# Altium footprint library MyLibrary.PcbLib: 365 footprints (part 21 of 23)
Each footprint in its own frame and in the unit in brackets; x right, y up, seen from the top. Pads: shape width x height; smd on the part's side, far side on the other; paste and mask are expansions set on the pad; w line width, h text height; cw(c..) or ccw(c..) is an arc to the next point about the centre after c.
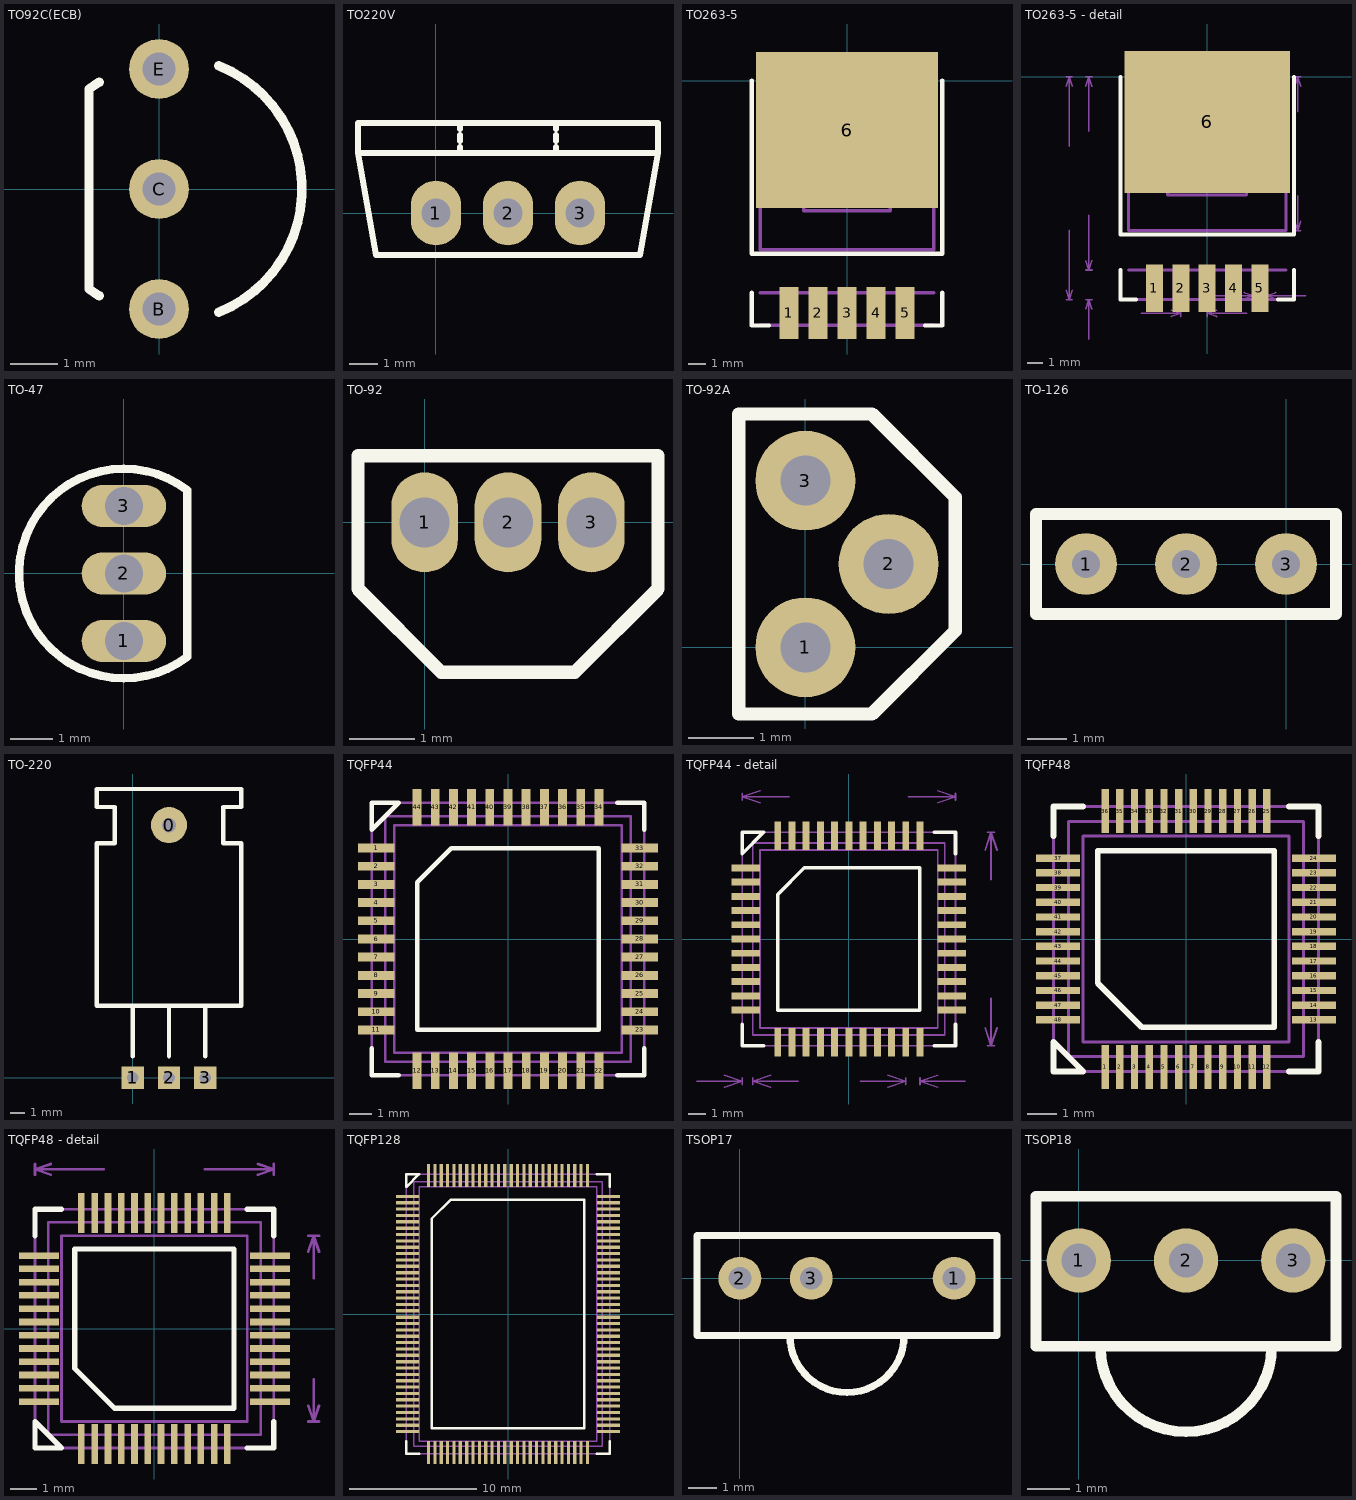
[diagram p20: the footprints below, top view; thin cyan lines are the x and y axes]

## TO92C(ECB) [mm]
pads (3):
  round 1.27 hole 0.7: B(0,-2.54) C(0,0) E(0,2.54)
Top Overlay:
  lines w0.2: -1.263,-2.263 -1.482,-2.117 -1.482,2.117 -1.263,2.263 ; 1.266,-2.61 ccw(c0.212,0) 1.266,2.61

## TO220V [mil]
pads (3):
  oval 70x90 hole 40: 1(0,0) 2(100,0) 3(200,0)
Top Overlay:
  lines w7.87: 33.33,83.33 33.33,91.67 ; 33.33,100 33.33,108.33 ; 33.33,116.67 33.33,125 ; 166.67,83.33 166.67,91.67 ; 166.67,100 166.67,108.33 ; 166.67,116.67 166.67,125 ; -108.33,83.33 308.33,83.33 ; -108.33,83.33 -83.33,-58.33 283.33,-58.33 308.33,83.33 ; -108.33,83.33 -108.33,125 308.33,125 308.33,83.33

## TO263-5 [mil]
pads (6):
  rect 43x120 smd: 1(-133.86,-536.34) 2(-66.93,-536.34) 3(0,-536.34) 4(66.93,-536.34) 5(133.86,-536.34)
  rect 420x360 smd: 6(0,-114.17)
Top Overlay:
  lines w10: -220,-490 -220,-565 -180,-565 ; -220,0 -220,-400 220,-400 220,0 ; 180,-565 220,-565 220,-490
Mechanical 1:
  lines w7.87: -200,-565 200,-565 ; -200,-490 200,-490 ; -200,-50 -100,-50 -100,-300 100,-300 100,-50 200,-50 ; -150.5,-565 -150.5,-490 ; -117.5,-565 -117.5,-490 ; -83.5,-565 -83.5,-490 ; -50.5,-565 -50.5,-490 ; -16.5,-565 -16.5,-490 ; 16.5,-565 16.5,-490 ; 50.5,-565 50.5,-490 ; 83.5,-565 83.5,-490 ; 117.5,-565 117.5,-490 ; 150.5,-565 150.5,-490 ; -200,-390 -200,0 200,0 200,-390 -200,-390

## TO263-5 - detail [mil]
pads (6):
  rect 43x120 smd: 1(-133.86,-536.34) 2(-66.93,-536.34) 3(0,-536.34) 4(66.93,-536.34) 5(133.86,-536.34)
  rect 420x360 smd: 6(0,-114.17)
Top Overlay:
  lines w10: -220,-490 -220,-565 -180,-565 ; -220,0 -220,-400 220,-400 220,0 ; 180,-565 220,-565 220,-490
Mechanical 1:
  lines w3.94: -357.87,-565 -342.13,-565 ; -357.87,-541.38 -350,-565 ; -357.87,-23.62 -350,0 ; -357.87,0 -342.13,0 ; -350,-388.93 -350,-565 ; -350,-176.07 -350,0 ; -342.13,-541.38 -350,-565 ; -342.13,-23.62 -350,0 ; -307.87,-588.62 -300,-565 ; -307.87,-565 -292.13,-565 ; -307.87,-23.62 -300,0 ; -307.87,0 -292.13,0 ; -300,-665 -300,-565 ; -300,-390 -300,-490 ; -300,-351.43 -300,-490 ; -300,-138.57 -300,0 ; -292.13,-588.62 -300,-565 ; -292.13,-23.62 -300,0 ; -200,22.13 -200,37.87 ; -176.38,22.13 -200,30 ; -176.38,37.87 -200,30 ; -167,-600 -67,-600 ; -106.43,30 -200,30 ; -90.62,-607.87 -67,-600 ; -90.62,-592.13 -67,-600 ; -67,-607.87 -67,-592.13 ; 0,-607.87 0,-592.13 ; 17.5,-555 117.5,-555 ; 23.62,-607.87 0,-600 ; 23.62,-592.13 0,-600 ; 93.88,-562.87 117.5,-555 ; 93.88,-547.13 117.5,-555 ; 100,-600 0,-600 ; 106.43,30 200,30 ; 117.5,-562.87 117.5,-547.13 ; 150.5,-562.87 150.5,-547.13 ; 174.12,-562.87 150.5,-555 ; 174.12,-547.13 150.5,-555 ; 176.38,22.13 200,30 ; 176.38,37.87 200,30 ; 200,22.13 200,37.87 ; 222.13,-390 237.87,-390 ; 222.13,-366.38 230,-390 ; 222.13,-23.62 230,0 ; 222.13,0 237.87,0 ; 230,-301.43 230,-390 ; 230,-88.57 230,0 ; 237.87,-366.38 230,-390 ; 237.87,-23.62 230,0 ; 250.5,-555 150.5,-555 ; -300,-490 -292.13,-466.38 -300,-490 ; -300,-490 -307.87,-466.38 -300,-490 ; -307.87,-490 -292.13,-490 -307.87,-490
  lines w7.87: -200,-565 200,-565 ; -200,-490 200,-490 ; -200,-50 -100,-50 -100,-300 100,-300 100,-50 200,-50 ; -150.5,-565 -150.5,-490 ; -117.5,-565 -117.5,-490 ; -83.5,-565 -83.5,-490 ; -50.5,-565 -50.5,-490 ; -16.5,-565 -16.5,-490 ; 16.5,-565 16.5,-490 ; 50.5,-565 50.5,-490 ; 83.5,-565 83.5,-490 ; 117.5,-565 117.5,-490 ; 150.5,-565 150.5,-490 ; -200,-390 -200,0 200,0 200,-390 -200,-390
  text "75 (mil)" at -237.02,-612.12 h23.62
  text "67 (mil)" at 120,-610 h23.62
  text "400 (mil)" at -96.43,14.26 h23.62
  text "390 (mil)" at 245.74,-291.43 h23.62
  text "33 (mil)" at 260,-570 h23.62
  text "490 (mil)" at -284.26,-341.43 h23.62
  text "565 (mil)" at -334.26,-378.93 h23.62

## TO-47 [mm]
pads (3):
  oval 2x1 hole 0.9: 1(0,-1.6) 2(0,0) 3(0,1.6)
Top Overlay:
  lines w0.2: 1.5,-1.98 cw(c0,0) 1.5,1.98 1.5,-1.98

## TO-92 [mil]
pads (3):
  oval 40x60 hole 30: 1(0,0) 2(50,0) 3(100,0)
Top Overlay:
  lines w8: -40,-40 10,-90 90,-90 140,-40 140,40 -40,40 -40,-40

## TO-92A [mil]
pads (3):
  round 60 hole 30: 1(0,0) 2(50,50) 3(0,100)
Top Overlay:
  lines w8: -40,-40 -40,140 40,140 90,90 90,10 40,-40 -40,-40

## TO-126 [mil]
pads (3):
  round 62 hole 28: 1(-200,0) 2(-100,0) 3(0,0)
Top Overlay:
  lines w12: -250,-50 50,-50 50,50 -250,50 -250,-50

## TO-220 [mil]
pads (4):
  round 100 hole 40: 0(100,700)
  rect 62x62 hole 32: 1(0,0) 2(100,0) 3(200,0)
Top Overlay:
  lines w12: 0,60 0,200 ; 100,60 100,200 ; 200,60 200,200 ; -100,200 300,200 300,650 250,650 250,750 300,750 300,800 -100,800 -100,750 -50,750 -50,650 -100,650 -100,200

## TQFP44 [mm]
pads (44):
  rect 1.6x0.39 smd: 1(-5.8,4) 2(-5.8,3.2) 3(-5.8,2.4) 4(-5.8,1.6) 5(-5.8,0.8) 6(-5.8,0) 7(-5.8,-0.8) 8(-5.8,-1.6) 9(-5.8,-2.4) 10(-5.8,-3.2) 11(-5.8,-4) 23(5.8,-4) 24(5.8,-3.2) 25(5.8,-2.4) 26(5.8,-1.6) 27(5.8,-0.8) 28(5.8,0) 29(5.8,0.8) 30(5.8,1.6) 31(5.8,2.4) 32(5.8,3.2) 33(5.8,4)
  rect 0.39x1.6 smd: 12(-4,-5.8) 13(-3.2,-5.8) 14(-2.4,-5.8) 15(-1.6,-5.8) 16(-0.8,-5.8) 17(0,-5.8) 18(0.8,-5.8) 19(1.6,-5.8) 20(2.4,-5.8) 21(3.2,-5.8) 22(4,-5.8) 34(4,5.8) 35(3.2,5.8) 36(2.4,5.8) 37(1.6,5.8) 38(0.8,5.8) 39(0,5.8) 40(-0.8,5.8) 41(-1.6,5.8) 42(-2.4,5.8) 43(-3.2,5.8) 44(-4,5.8)
Top Overlay:
  lines w0.2: -6,-4.8 -6,-6 -4.8,-6 ; 4.8,-6 6,-6 6,-4.8 ; 4.8,6 6,6 6,4.8 ; -6,4.8 -4.8,6 -6,6 -6,4.8 ; -4,-4 -4,2.5 -2.5,4 4,4 4,-4 -4,-4
Mechanical 1:
  lines w0.1: -6,-6 -6,6 6,6 6,-6 -6,-6 ; -5.4,-5.4 5.4,-5.4 5.4,5.4 -5.4,5.4 -5.4,-5.4 ; -5,-5 -5,5 5,5 5,-5 -5,-5

## TQFP44 - detail [mm]
pads (44):
  rect 1.6x0.39 smd: 1(-5.8,4) 2(-5.8,3.2) 3(-5.8,2.4) 4(-5.8,1.6) 5(-5.8,0.8) 6(-5.8,0) 7(-5.8,-0.8) 8(-5.8,-1.6) 9(-5.8,-2.4) 10(-5.8,-3.2) 11(-5.8,-4) 23(5.8,-4) 24(5.8,-3.2) 25(5.8,-2.4) 26(5.8,-1.6) 27(5.8,-0.8) 28(5.8,0) 29(5.8,0.8) 30(5.8,1.6) 31(5.8,2.4) 32(5.8,3.2) 33(5.8,4)
  rect 0.39x1.6 smd: 12(-4,-5.8) 13(-3.2,-5.8) 14(-2.4,-5.8) 15(-1.6,-5.8) 16(-0.8,-5.8) 17(0,-5.8) 18(0.8,-5.8) 19(1.6,-5.8) 20(2.4,-5.8) 21(3.2,-5.8) 22(4,-5.8) 34(4,5.8) 35(3.2,5.8) 36(2.4,5.8) 37(1.6,5.8) 38(0.8,5.8) 39(0,5.8) 40(-0.8,5.8) 41(-1.6,5.8) 42(-2.4,5.8) 43(-3.2,5.8) 44(-4,5.8)
Top Overlay:
  lines w0.2: -6,-4.8 -6,-6 -4.8,-6 ; 4.8,-6 6,-6 6,-4.8 ; 4.8,6 6,6 6,4.8 ; -6,4.8 -4.8,6 -6,6 -6,4.8 ; -4,-4 -4,2.5 -2.5,4 4,4 4,-4 -4,-4
Mechanical 1:
  lines w0.1: -8.54,-8 -6,-8 ; -7,-8.333 -6,-8 ; -7,-7.667 -6,-8 ; -6,-8.2 -6,-7.8 ; -6,7.8 -6,8.2 ; -5.4,-8.2 -5.4,-7.8 ; -5,7.667 -6,8 ; -5,8.333 -6,8 ; -4.4,-8.333 -5.4,-8 ; -4.4,-7.667 -5.4,-8 ; -3.353,8 -6,8 ; -2.86,-8 -5.4,-8 ; 0.66,-8 3.2,-8 ; 2.2,-8.333 3.2,-8 ; 2.2,-7.667 3.2,-8 ; 3.2,-8.2 3.2,-7.8 ; 3.353,8 6,8 ; 4,-8.2 4,-7.8 ; 5,-8.333 4,-8 ; 5,-7.667 4,-8 ; 5,7.667 6,8 ; 5,8.333 6,8 ; 6,7.8 6,8.2 ; 6.54,-8 4,-8 ; 7.667,-5 8,-6 ; 7.667,5 8,6 ; 7.8,-6 8.2,-6 ; 7.8,6 8.2,6 ; 8,-3.353 8,-6 ; 8,3.353 8,6 ; 8.333,-5 8,-6 ; 8.333,5 8,6 ; -6,-6 -6,6 6,6 6,-6 -6,-6 ; -5.4,-5.4 5.4,-5.4 5.4,5.4 -5.4,5.4 -5.4,-5.4 ; -5,-5 -5,5 5,5 5,-5 -5,-5
  text "12 (mm)" at 8.6,-3.099 h1
  text "12 (mm)" at -3.099,7.4 h1
  text "0.6 (mm)" at -9.299,-10.399 h1
  text "0.8 (mm)" at 0.001,-10.399 h1

## TQFP48 [mm]
pads (48):
  rect 0.25x1.5 smd: 1(-2.75,-4.35) 2(-2.25,-4.35) 3(-1.75,-4.35) 4(-1.25,-4.35) 5(-0.75,-4.35) 6(-0.25,-4.35) 7(0.25,-4.35) 8(0.75,-4.35) 9(1.25,-4.35) 10(1.75,-4.35) 11(2.25,-4.35) 12(2.75,-4.35) 25(2.75,4.35) 26(2.25,4.35) 27(1.75,4.35) 28(1.25,4.35) 29(0.75,4.35) 30(0.25,4.35) 31(-0.25,4.35) 32(-0.75,4.35) 33(-1.25,4.35) 34(-1.75,4.35) 35(-2.25,4.35) 36(-2.75,4.35)
  rect 1.5x0.25 smd: 13(4.35,-2.75) 14(4.35,-2.25) 15(4.35,-1.75) 16(4.35,-1.25) 17(4.35,-0.75) 18(4.35,-0.25) 19(4.35,0.25) 20(4.35,0.75) 21(4.35,1.25) 22(4.35,1.75) 23(4.35,2.25) 24(4.35,2.75) 37(-4.35,2.75) 38(-4.35,2.25) 39(-4.35,1.75) 40(-4.35,1.25) 41(-4.35,0.75) 42(-4.35,0.25) 43(-4.35,-0.25) 44(-4.35,-0.75) 45(-4.35,-1.25) 46(-4.35,-1.75) 47(-4.35,-2.25) 48(-4.35,-2.75)
Top Overlay:
  lines w0.2: -4.5,3.5 -4.5,4.5 -3.5,4.5 ; 3.5,-4.5 4.5,-4.5 4.5,-3.5 ; 3.5,4.5 4.5,4.5 4.5,3.5 ; -4.5,-4.5 -3.5,-4.5 -4.5,-3.5 -4.5,-4.5 ; -3,-1.5 -3,3 3,3 3,-3 -1.5,-3 -3,-1.5
Mechanical 1:
  lines w0.1: -4.5,-4.5 4.5,-4.5 4.5,4.5 -4.5,4.5 -4.5,-4.5 ; -4,-4 4,-4 4,4 -4,4 -4,-4 ; -3.5,-3.5 -3.5,3.5 3.5,3.5 3.5,-3.5 -3.5,-3.5

## TQFP48 - detail [mm]
pads (48):
  rect 0.25x1.5 smd: 1(-2.75,-4.35) 2(-2.25,-4.35) 3(-1.75,-4.35) 4(-1.25,-4.35) 5(-0.75,-4.35) 6(-0.25,-4.35) 7(0.25,-4.35) 8(0.75,-4.35) 9(1.25,-4.35) 10(1.75,-4.35) 11(2.25,-4.35) 12(2.75,-4.35) 25(2.75,4.35) 26(2.25,4.35) 27(1.75,4.35) 28(1.25,4.35) 29(0.75,4.35) 30(0.25,4.35) 31(-0.25,4.35) 32(-0.75,4.35) 33(-1.25,4.35) 34(-1.75,4.35) 35(-2.25,4.35) 36(-2.75,4.35)
  rect 1.5x0.25 smd: 13(4.35,-2.75) 14(4.35,-2.25) 15(4.35,-1.75) 16(4.35,-1.25) 17(4.35,-0.75) 18(4.35,-0.25) 19(4.35,0.25) 20(4.35,0.75) 21(4.35,1.25) 22(4.35,1.75) 23(4.35,2.25) 24(4.35,2.75) 37(-4.35,2.75) 38(-4.35,2.25) 39(-4.35,1.75) 40(-4.35,1.25) 41(-4.35,0.75) 42(-4.35,0.25) 43(-4.35,-0.25) 44(-4.35,-0.75) 45(-4.35,-1.25) 46(-4.35,-1.75) 47(-4.35,-2.25) 48(-4.35,-2.75)
Top Overlay:
  lines w0.2: -4.5,3.5 -4.5,4.5 -3.5,4.5 ; 3.5,-4.5 4.5,-4.5 4.5,-3.5 ; 3.5,4.5 4.5,4.5 4.5,3.5 ; -4.5,-4.5 -4.5,-3.5 -3.5,-4.5 -4.5,-4.5 ; -3,-1.5 -1.5,-3 3,-3 3,3 -3,3 -3,-1.5
Mechanical 1:
  lines w0.1: -4.5,5.8 -4.5,6.2 ; -3.9,5.8 -4.5,6 ; -3.9,6.2 -4.5,6 ; -1.903,6 -4.5,6 ; 1.903,6 4.5,6 ; 3.9,5.8 4.5,6 ; 3.9,6.2 4.5,6 ; 4.5,5.8 4.5,6.2 ; 5.8,-3.5 6.2,-3.5 ; 5.8,-2.9 6,-3.5 ; 5.8,2.9 6,3.5 ; 5.8,3.5 6.2,3.5 ; 6,-1.903 6,-3.5 ; 6,1.903 6,3.5 ; 6.2,-2.9 6,-3.5 ; 6.2,2.9 6,3.5 ; -4.5,-4.5 -4.5,4.5 4.5,4.5 4.5,-4.5 -4.5,-4.5 ; -4,-4 -4,4 4,4 4,-4 -4,-4 ; -3.5,-3.5 3.5,-3.5 3.5,3.5 -3.5,3.5 -3.5,-3.5
  text "9 (mm)" at -1.649,5.6 h0.6
  text "7 (mm)" at 6.4,-1.649 h0.6

## TQFP128 [mm]
pads (128):
  rect 1.8x0.25 smd: 1(-7.9,9.25) 2(-7.9,8.75) 3(-7.9,8.25) 4(-7.9,7.75) 5(-7.9,7.25) 6(-7.9,6.75) 7(-7.9,6.25) 8(-7.9,5.75) 9(-7.9,5.25) 10(-7.9,4.75) 11(-7.9,4.25) 12(-7.9,3.75) 13(-7.9,3.25) 14(-7.9,2.75) 15(-7.9,2.25) 16(-7.9,1.75) 17(-7.9,1.25) 18(-7.9,0.75) 19(-7.9,0.25) 20(-7.9,-0.25) 21(-7.9,-0.75) 22(-7.9,-1.25) 23(-7.9,-1.75) 24(-7.9,-2.25) 25(-7.9,-2.75) 26(-7.9,-3.25) 27(-7.9,-3.75) 28(-7.9,-4.25) 29(-7.9,-4.75) 30(-7.9,-5.25) 31(-7.9,-5.75) 32(-7.9,-6.25) 33(-7.9,-6.75) 34(-7.9,-7.25) 35(-7.9,-7.75) 36(-7.9,-8.25) 37(-7.9,-8.75) 38(-7.9,-9.25) 65(7.9,-9.25) 66(7.9,-8.75) 67(7.9,-8.25) 68(7.9,-7.75) 69(7.9,-7.25) 70(7.9,-6.75) 71(7.9,-6.25) 72(7.9,-5.75) 73(7.9,-5.25) 74(7.9,-4.75) 75(7.9,-4.25) 76(7.9,-3.75) 77(7.9,-3.25) 78(7.9,-2.75) 79(7.9,-2.25) 80(7.9,-1.75) 81(7.9,-1.25) 82(7.9,-0.75) 83(7.9,-0.25) 84(7.9,0.25) 85(7.9,0.75) 86(7.9,1.25) 87(7.9,1.75) 88(7.9,2.25) 89(7.9,2.75) 90(7.9,3.25) 91(7.9,3.75) 92(7.9,4.25) 93(7.9,4.75) 94(7.9,5.25) 95(7.9,5.75) 96(7.9,6.25) 97(7.9,6.75) 98(7.9,7.25) 99(7.9,7.75) 100(7.9,8.25) 101(7.9,8.75) 102(7.9,9.25)
  rect 0.25x1.8 smd: 39(-6.25,-10.9) 40(-5.75,-10.9) 41(-5.25,-10.9) 42(-4.75,-10.9) 43(-4.25,-10.9) 44(-3.75,-10.9) 45(-3.25,-10.9) 46(-2.75,-10.9) 47(-2.25,-10.9) 48(-1.75,-10.9) 49(-1.25,-10.9) 50(-0.75,-10.9) 51(-0.25,-10.9) 52(0.25,-10.9) 53(0.75,-10.9) 54(1.25,-10.9) 55(1.75,-10.9) 56(2.25,-10.9) 57(2.75,-10.9) 58(3.25,-10.9) 59(3.75,-10.9) 60(4.25,-10.9) 61(4.75,-10.9) 62(5.25,-10.9) 63(5.75,-10.9) 64(6.25,-10.9) 103(6.25,10.9) 104(5.75,10.9) 105(5.25,10.9) 106(4.75,10.9) 107(4.25,10.9) 108(3.75,10.9) 109(3.25,10.9) 110(2.75,10.9) 111(2.25,10.9) 112(1.75,10.9) 113(1.25,10.9) 114(0.75,10.9) 115(0.25,10.9) 116(-0.25,10.9) 117(-0.75,10.9) 118(-1.25,10.9) 119(-1.75,10.9) 120(-2.25,10.9) 121(-2.75,10.9) 122(-3.25,10.9) 123(-3.75,10.9) 124(-4.25,10.9) 125(-4.75,10.9) 126(-5.25,10.9) 127(-5.75,10.9) 128(-6.25,10.9)
Top Overlay:
  lines w0.2: -8,-10 -8,-11 -7,-11 ; 7,-11 8,-11 8,-10 ; 7,11 8,11 8,10 ; -8,10 -7,11 -8,11 -8,10 ; -6,-9 6,-9 6,9 -4.5,9 -6,7.5 -6,7 -6,-9
Mechanical 1:
  lines w0.1: -8,-11 -8,11 8,11 8,-11 -8,-11 ; -7.4,-10.4 7.4,-10.4 7.4,10.4 -7.4,10.4 -7.4,-10.4 ; -7,-10 7,-10 7,10 -7,10 -7,-10

## TSOP17 [mil]
pads (3):
  round 60 hole 32: 1(300,0) 2(0,0) 3(100,0)
Top Overlay:
  lines w10: 70,-80 ccw(c150,-80) 230,-80 ; -60,-80 -60,60 360,60 360,-80 -60,-80
Mechanical 1:
  text "-" at -15,-80 h40
  text "+" at 85,-80 h40
  text "OUT" at 265,-70 h30

## TSOP18 [mil]
pads (3):
  round 60 hole 32: 1(0,0) 2(100,0) 3(200,0)
Top Overlay:
  lines w10: 20,-80 ccw(c100,-80) 180,-80 ; -40,-80 240,-80 240,60 -40,60 -40,-80
Mechanical 1:
  text "-" at 90,-80 h40
  text "+" at 185,-80 h40
  text "OUT" at -30,-70 h30